# EAGLE library part USB_MICROB_PLUG (library stepOSP)
USB Micro-B connectors Some male, some female. Watch your step!
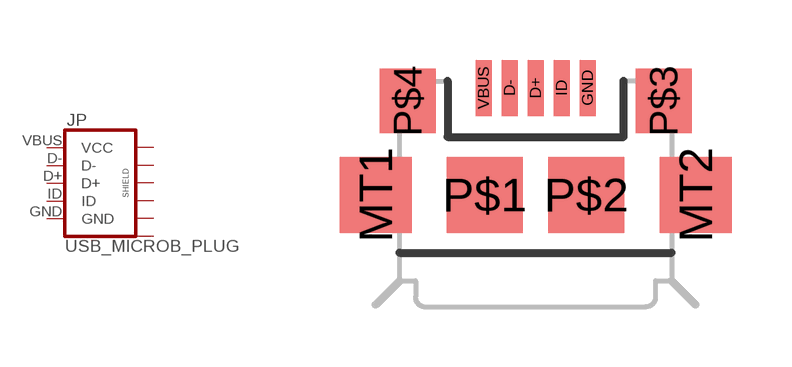
[diagram p12: symbol with the pads of USB-MICROB; footprint USB-MICROB]

Designator prefix JP

## USB_MICROB_PLUG  [USB-MICROB]
D+  D+
D-  D-
GND  GND
ID  ID
MT1  SHIELD
MT2  SHIELD1
P$1  SHIELD2
P$2  SHIELD3
P$3  SHIELD4
P$4  SHIELD5
VBUS  VCC

## Footprint USB-MICROB (pad centres in mm)
Micro USB Package
smd 0.4 x 1.4: D+ 0,2.675; D- -0.65,2.675; GND 1.3,2.675; ID 0.65,2.675; VBUS -1.3,2.675
smd 1.8 x 1.9: MT1 -4,0; MT2 4,0
smd 1.9 x 1.9: P$1 -1.27,0; P$2 1.27,0
smd 1.4 x 1.6: P$3 3.2,2.35; P$4 -3.2,2.35